# Altium schematic symbol library PNY-07006.SchLib: 1 symbol
Pins are listed as number, name and electrical type; pins without a type are passive.

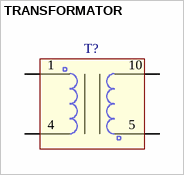
[diagram p0: symbol TRANSFORMATOR]

## TRANSFORMATOR
designator T?  (value not drawn)
footprint TRANSFORMATOR
pins: 1, 4, 5, 10